# Altium footprint library STMelectronics_Footprints.PcbLib: 1 footprints
Each footprint in its own frame and in the unit in brackets; x right, y up, seen from the top. Pads: shape width x height; smd on the part's side, far side on the other; paste and mask are expansions set on the pad; w line width, h text height; cw(c..) or ccw(c..) is an arc to the next point about the centre after c.
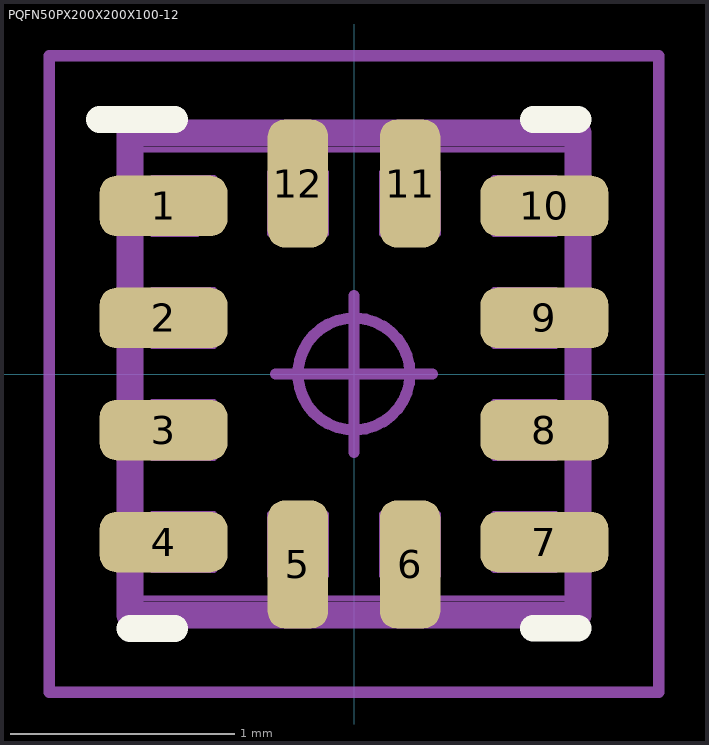
[diagram p0: the footprint, top view; thin cyan lines are the x and y axes]

## PQFN50PX200X200X100-12 [mm] "IPC-7351C; Length 2mm; Width 2mm; Height 1mm; Pitch 0.5mm; PAD 0.25x0.275mm; 12 pins"
height 1
pads (12):
  rrect55% 0.57x0.27 smd: 1(-0.85,0.75) 2(-0.85,0.25) 3(-0.85,-0.25) 4(-0.85,-0.75) 7(0.85,-0.75) 8(0.85,-0.25) 9(0.85,0.25) 10(0.85,0.75)
  rrect55% 0.27x0.57 smd: 5(-0.25,-0.85) 6(0.25,-0.85) 11(0.25,0.85) 12(-0.25,0.85)
Top Overlay:
  lines w0.12: -1.135,1.135 -0.8,1.135 ; -1,-1.135 -0.8,-1.135 ; 0.8,-1.135 1,-1.135 ; 0.8,1.135 1,1.135
Mechanical 11:
  lines w0.12: -1,-1.075 -1,1.075 1,1.075 1,-1.075 -1,-1.075
Mechanical 12:
  lines w0.025: -0.7,0.625 -0.9,0.625 -0.9,0.875 -0.625,0.875 -0.625,0.7 ; -0.7,0.625 -0.7,0.625 ; -0.7,0.625 -0.625,0.7 ; -0.625,0.7 -0.625,0.7 ; -1,-1 1,-1 1,1 -1,1 -1,-1 ; -0.9,-0.875 -0.625,-0.875 -0.625,-0.625 -0.9,-0.625 -0.9,-0.875 ; -0.9,-0.375 -0.9,-0.125 -0.625,-0.125 -0.625,-0.375 -0.9,-0.375 ; -0.9,0.125 -0.9,0.375 -0.625,0.375 -0.625,0.125 -0.9,0.125 ; -0.375,-0.9 -0.125,-0.9 -0.125,-0.625 -0.375,-0.625 -0.375,-0.9 ; -0.375,0.625 -0.375,0.9 -0.125,0.9 -0.125,0.625 -0.375,0.625 ; 0.125,-0.9 0.125,-0.625 0.375,-0.625 0.375,-0.9 0.125,-0.9 ; 0.125,0.625 0.375,0.625 0.375,0.9 0.125,0.9 0.125,0.625 ; 0.625,-0.875 0.625,-0.625 0.9,-0.625 0.9,-0.875 0.625,-0.875 ; 0.625,-0.375 0.9,-0.375 0.9,-0.125 0.625,-0.125 0.625,-0.375 ; 0.625,0.125 0.9,0.125 0.9,0.375 0.625,0.375 0.625,0.125 ; 0.625,0.625 0.9,0.625 0.9,0.875 0.625,0.875 0.625,0.625
Mechanical 15:
  circle w0.05: c0,0 r0.25
  lines w0.05: -0.35,0 0.35,0 ; 0,-0.35 0,0.35 ; -1.36,-1.42 -1.36,1.42 1.36,1.42 1.36,-1.42 -1.36,-1.42
Mechanical 16:
  text "'.Designator'" at 0,0 h1.2
3D body "User Library-lga-2x2x0_9.stp": height 0.95, standoff 0, extent -1,-1 1,1